# Altium integrated library MPU-6000.IntLib: 2 symbols
Pins are listed as number, name and electrical type; pins without a type are passive.

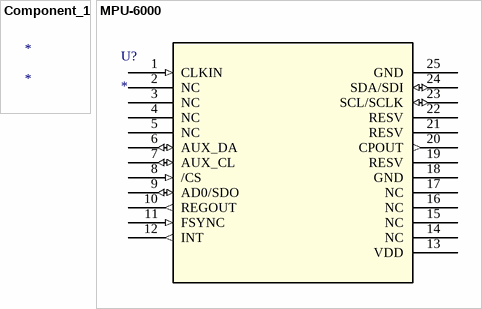
[diagram p0: symbols Component_1 to MPU-6000]

## Component_1
designator *

## MPU-6000
designator U?
No Description Available; Mfr_Name: InvenSense; RefDes: RefDes; Type: Type
footprint QFN24_4X4X0P9_IVS
pins: 1 CLKIN (in), 2 NC, 3 NC, 4 NC, 5 NC, 6 AUX_DA (io), 7 AUX_CL (io), 8 /CS (in), 9 AD0/SDO (io), 10 REGOUT (out), 11 FSYNC (in), 12 INT (out), 13 VDD (power), 14 NC, 15 NC, 16 NC, 17 NC, 18 GND (power), 19 RESV, 20 CPOUT (out), 21 RESV, 22 RESV, 23 SCL/SCLK (io), 24 SDA/SDI (io), 25 GND (power)